# Altium schematic symbol library AIWAC-TF_CARD-V02_1.SCHLIB: 11 symbols
Pins are listed as number, name and electrical type; pins without a type are passive.

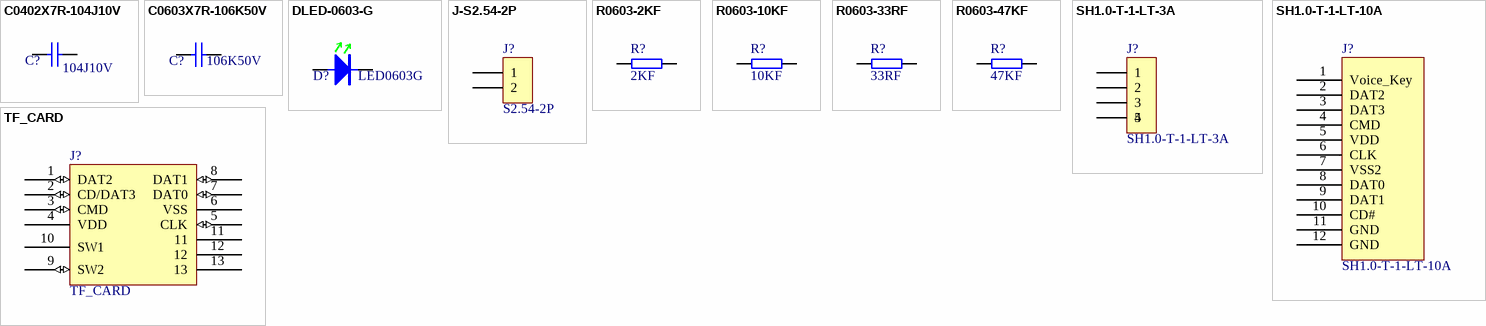
[diagram p0: symbols C0402X7R-104J10V to TF_CARD]

## C0402X7R-104J10V
designator C?, comment 104J10V
贴片电容-陶瓷; 规格型号: 100nF±5%_10V_X7R_C0402; 生产商: 风华 三星; 供应商: *; 备注: *
footprint C0402
pins: 1, 2

## C0603X7R-106K50V
designator C?, comment 106K50V
贴片电容-陶瓷; 规格型号: 10uF±10%_50V_X7R_C0603; 生产商: 风华 三星; 供应商: *; 备注: *
footprint C0603
pins: 1, 2

## DLED-0603-G
designator D?, comment LED0603G
贴片二极管-LED; 规格型号: 0603-GREEN; 货品编码: 无样品无编码; 生产商: *; 供应商: *; 备注: *
footprint D-LED0603G
pins: 1, 2

## J-S2.54-2P
designator J?, comment S2.54-2P
单排排针-直针; 货品编码: 372013; 供应商: *; 规格型号: S2.54-2P; 备注: *
footprint S2.54-2P (Footprint not found)
pins: 1, 2

## R0603-2KF
designator R?, comment 2KF
贴片电阻-通用; 生产商: 厚声 国巨; 规格型号: 2K±1%_1/10W_±200ppm_R0603; 备注: *; 供应商: *
footprint R0603
pins: 1, 2

## R0603-10KF
designator R?, comment 10KF
贴片电阻-通用; 生产商: 厚声 国巨; 规格型号: 10K±1%_1/10W_±200ppm_R0603; 备注: *; 供应商: *
footprint R0603
pins: 1, 2

## R0603-33RF
designator R?, comment 33RF
贴片电阻-通用; 生产商: 厚声 国巨; 规格型号: 33R±1%_1/10W_±200ppm_R0603; 货品编码: 无样品无编码; 备注: *; 供应商: *
footprint R0603
pins: 1, 2

## R0603-47KF
designator R?, comment 47KF
贴片电阻-通用; 生产商: 厚声 国巨; 规格型号: 47K±1%_1/10W_±200ppm_R0603; 货品编码: 无样品无编码; 备注: *; 供应商: *
footprint R0603
pins: 1, 2

## SH1.0-T-1-LT-3A
designator J?
接插件-SH1.0-T-1-LT-3A; 规格型号: 1.0m立式贴片插座3P/SH1.0-T-1-LT-3A; 供应商: *; 备注: *
footprint J-SH1.0-T-1-LT-3A
pins: 1, 2, 3, 4, 5

## SH1.0-T-1-LT-10A
designator J?
接插件SH1.0-T-1-LT-10A; value: 供给TF卡的座子
footprint J-SH1.0-T-1-LT-10A (接插件SH1.0-T-1-LT-10A，A33TF卡槽)
pins: 1 Voice_Key, 2 DAT2 (power), 3 DAT3 (power), 4 CMD (power), 5 VDD, 6 CLK, 7 VSS2, 8 DAT0, 9 DAT1, 10 CD#, 11 GND, 12 GND

## TF_CARD
designator J?
MS110-C10B-C16
footprint SD_CARD_7 (This is 9信号的，适用于A33)
pins: 1 DAT2 (io), 2 CD/DAT3 (io), 3 CMD (io), 4 VDD (power), 5 CLK (io), 6 VSS, 7 DAT0 (io), 8 DAT1 (io), 9 SW2 (io), 10 SW1, 11, 12, 13